# EAGLE library part 1734510-1 (library drive_brake)
Conn Mini USB Type B RCP 5 POS 1.6mm Solder RA Thru-Hole 5 Terminal 1 Port Tray
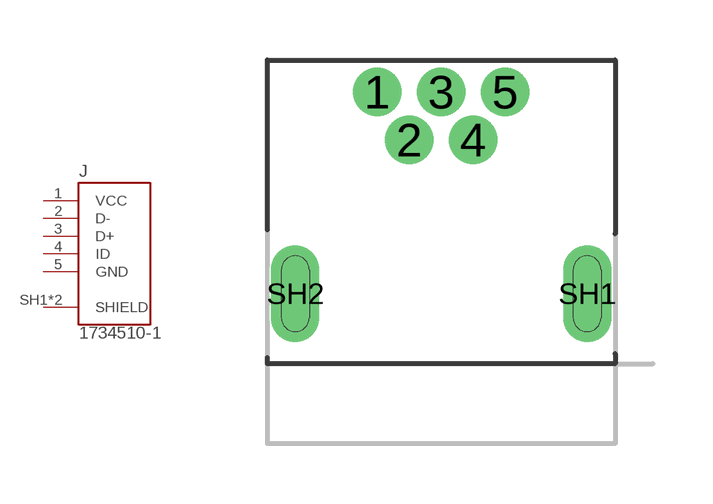
[diagram p0: symbol with the pads of TE_1734510-1; footprint TE_1734510-1]

Designator prefix J

## 1734510-1 (AVAILABILITY: Unavailable; COMMENT: 1734510-1; DESCRIPTION: Conn Mini USB Type B RCP 5 POS 1.6mm Solder RA Thru-Hole 5 Terminal 1 Port Tray; MF: TE Connectivity; MP: 1734510-1; PACKAGE: None; PRICE: None; TE_PURCHASE_URL: https://www.te.com/usa-en/product-1734510-1.html?te_bu=Cor&te_type=disp&te_campaign=seda_glo_cor-seda-global-disp-prtnr-fy19-seda-model-bom-cta_sma-317_1&elqCampaignId=32493)  [TE_1734510-1]
1  VCC  pas
2  D-  pas
3  D+  pas
4  ID  pas
5  GND  pas
SH1  SHIELD  pas
SH2  SHIELD  pas

## Footprint TE_1734510-1 (pad centres in mm)
https://www.te.com/commerce/DocumentDelivery/DDEController?Action=srchrtrv&DocNm=1734510&DocType=Customer+Drawing&DocLang=English
drill 0.7 pad 1.2: 1 -1.6,5.05; 2 -0.8,3.85; 3 0,5.05; 4 0.8,3.85; 5 1.6,5.05
drill 0.7 long: SH1 3.65,0; SH2 -3.65,0